# Altium footprint library Amplifiers_sizes.PcbLib: 2 footprints
Each footprint in its own frame and in the unit in brackets; x right, y up, seen from the top. Pads: shape width x height; smd on the part's side, far side on the other; paste and mask are expansions set on the pad; w line width, h text height; cw(c..) or ccw(c..) is an arc to the next point about the centre after c.
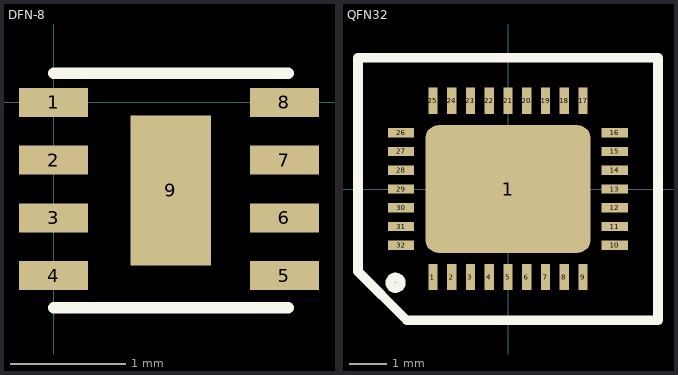
[diagram p0: the footprints below, top view; thin cyan lines are the x and y axes]

## DFN-8 [mm]
pads (9):
  rect 0.6x0.25 smd: 1(0,0) 2(0,-0.5) 3(0,-1) 4(0,-1.5) 5(2,-1.5) 6(2,-1) 7(2,-0.5) 8(2,0)
  rect 0.7x1.3 smd: 9(1.016,-0.762)
Top Overlay:
  lines w0.1: 0,-1.778 2.032,-1.778 ; 0,0.254 2.032,0.254

## QFN32 [mm]
pads (33):
  rect 0.25x0.7 smd: 1(-2,-2.347) 2(-1.5,-2.347) 3(-1,-2.347) 4(-0.5,-2.347) 5(0,-2.347) 6(0.5,-2.347) 7(1,-2.347) 8(1.5,-2.347) 9(2,-2.347) 17(2,2.353) 18(1.5,2.353) 19(1,2.353) 20(0.5,2.353) 21(0,2.353) 22(-0.5,2.353) 23(-1,2.353) 24(-1.5,2.353) 25(-2,2.353)
  rrect20% 4.4x3.4 smd: 1(0,0)
  rect 0.7x0.25 smd: 10(2.847,-1.5) 11(2.847,-1) 12(2.847,-0.5) 13(2.847,0) 14(2.847,0.5) 15(2.847,1) 16(2.847,1.5) 26(-2.853,1.5) 27(-2.853,1) 28(-2.853,0.5) 29(-2.853,0) 30(-2.853,-0.5) 31(-2.853,-1) 32(-2.853,-1.5)
Top Overlay:
  circle w0.254: c-3,-2.5 r0.141
  lines w0.254: -4,-2.2 -4,3.5 0,3.5 4,3.5 4,-3.5 -2.7,-3.5 -4,-2.2
3D body: height 1, standoff 0, extent -3,-2.5 3,2.5